# EAGLE library part 76SC04T (library TMS99)
76SC04T
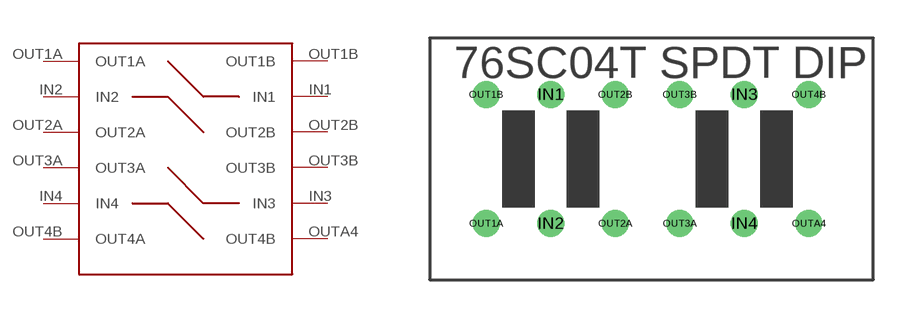
[diagram p11: symbol with the pads of 76SC04T; footprint 76SC04T]

Designator prefix SW

## 76SC04T  [76SC04T]
IN1  IN1
IN2  IN2
IN3  IN3
IN4  IN4
OUT1A  OUT1A
OUT1B  OUT1B
OUT2A  OUT2A
OUT2B  OUT2B
OUT3A  OUT3A
OUT3B  OUT3B
OUT4B  OUT4A
OUTA4  OUT4B

## Footprint 76SC04T (pad centres in mm)
Grayhill 76SC04T
drill 0.55: IN1 4.763,7.303; IN2 4.763,2.223; IN3 12.383,7.303; IN4 12.383,2.223; OUT1A 2.223,2.223; OUT1B 2.223,7.303; OUT2A 7.303,2.223; OUT2B 7.303,7.303; OUT3A 9.842,2.223; OUT3B 9.842,7.303; OUT4B 14.922,7.303; OUTA4 14.922,2.223